# Altium schematic symbol library Diodes Schottky.SchLib: 7 symbols
Pins are listed as number, name and electrical type; pins without a type are passive.

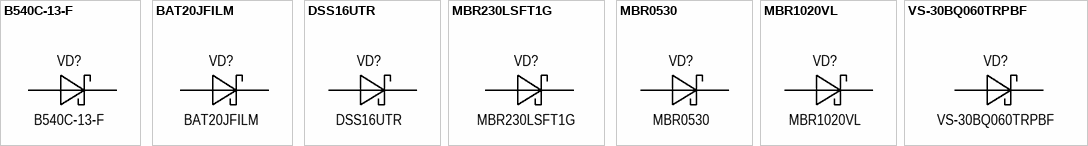
[diagram p0: symbols B540C-13-F to VS-30BQ060TRPBF]

## B540C-13-F
designator VD?
Diode Schottky 40V 5A(550mV); Manufacturer: Diodes Incorporated; Group: Discrete; Component: Diode Schotky; Package: DO-214AB; Part name: B540C-13-F; Reverse voltage: 40V; Forward current: 5A; Forward voltage: 550mV; Dimension: 6.22mm x 8.13mm; Height: 2.50mm; Mounting type: Surface mount; Operating temperature: -55°C +°150C
footprint DO-214AB (Footprint not found)
pins: A Anode, C Cathode

## BAT20JFILM
designator VD?
Diode Schottky 23V 1A(620mV); Manufacturer: STMicroelectronics; Group: Discrete; Component: Diode Schotky; Package: SOD-323; Part name: BAT20JFILM; Forward current: 1A; Forward voltage: 620mV; Reverse voltage: 23V; Dimension: 1.35mm x 2.70mm; Height: 1.13mm; Mounting type: Surface mount; Operating temperature: -55°C +°150C
footprint SOD-323L
pins: A Anode, C Cathode

## DSS16UTR
designator VD?
Diode Schottky 60V 1A(670mV) SOD-123FL; Manufacturer: SMC; Group: Discrete; Forward current: 1.0A; Component: Diode Schotky; Package: SOD-123FL; Part name: DSS16UTR; Forward voltage: 670mV; Dimension: 1.80mm x 3.80mm; Height: 1.10mm; Mounting type: Surface mount; Operating temperature: -55°C +150°C; Reverse voltage: 60V
footprint SOD-123F
pins: A Anode, C Cathode

## MBR230LSFT1G
designator VD?
Diode Schottky 30V 2A(430mV); Manufacturer: ON Semiconductor; Group: Discrete; Component: Diode Schotky; Package: SOD-123F; Part name: MBR230LSFT1G; Forward voltage: 430mV; Forward current: 2A; Dimension: 1.80mm x 3.80mm; Height: 0.98mm; Mounting type: Surface mount; Operating temperature: -55°C +°125C; Reverse voltage: 30V
footprint SOD-123F (Footprint not found)
pins: A Anode, C Cathode

## MBR0530
designator VD?
Diode Schottky 30V 0.5A(430mV); Manufacturer: ON Semiconductor; Group: Discrete; Component: Diode Schotky; Package: SOD-123; Part name: MBR0530; Forward voltage: 430mV; Forward current: 0.5A; Dimension: 1.95mm x 3.90mm; Height: 1.28mm; Mounting type: Surface mount; Operating temperature: -65°C +125°C; Reverse voltage: 30V
footprint SOD-123
pins: A Anode, C Cathode

## MBR1020VL
designator VD?
Diode Schottky 20V 1A(340mV); Manufacturer: Fairchild Semiconductor; Group: Discrete; Component: Diode Schotky; Package: SOD-123F; Part name: MBR1020VL; Forward voltage: 340mV; Forward current: 1A; Dimension: 1.95mm x 3.90mm; Height: 1.08mm; Mounting type: Surface mount; Operating temperature: -55°C +125°C; Reverse voltage: 20V
footprint SOD-123F (Footprint not found)
pins: A Anode, C Cathode

## VS-30BQ060TRPBF
designator VD?
Diode Schottky 60V 3A(580mV); Manufacturer: Diodes Incorporated; Group: Discrete; Component: Diode Schotky; Package: DO-214AB; Part name: VS-30BQ060TRPBF; Reverse voltage: 60V; Forward current: 3A; Forward voltage: 580mV; Dimension: 6.22mm x 8.13mm; Height: 2.50mm; Mounting type: Surface mount; Operating temperature: -55°C +°150C
footprint DO-214AB (Footprint not found)
pins: A Anode, C Cathode